# EAGLE library part 691311400108 (library Terminal_Blocks_Connectors_rev15e)
WR-TBL Serie 3114 - 7.62 mm Close Vertical PCB Header , 8 Pins=>Code : Con_TBL_Pluggable_7.62_PCB_V_691311400108 <http://katalog.we-online.de/media/images/eican/Con_TBL_Pluggable_7.62_PCB_V_6913114001xx_pf2.jpg> Details see: http://katalog.we-online.de/en/em/691_311_400_1xx Created 2014-06-25, Karrer Zheng 2014 (C) Würth Elektronik
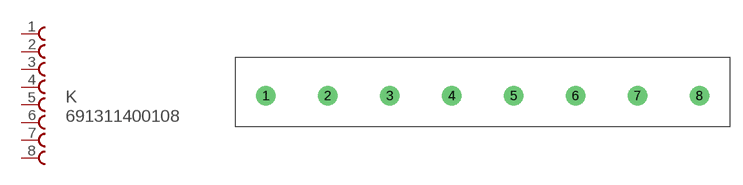
[diagram p182: symbol with the pads of 691311400108; footprint 691311400108]

Designator prefix K

## 691311400108  [691311400108]
1  1  pas
2  2  pas
3  3  pas
4  4  pas
5  5  pas
6  6  pas
7  7  pas
8  8  pas

## Footprint 691311400108 (pad centres in mm)
WR-TBL Serie 3114 - 7.62 mm Close Vertical PCB Header , 8 Pins
drill 1.6: 1 -30.48,0; 2 -22.86,0; 3 -15.24,0; 4 -7.62,0; 5 0,0; 6 7.62,0; 7 15.24,0; 8 22.86,0